# Altium integrated library Varistor (VDR).IntLib: 1 symbol
Pins are listed as number, name and electrical type; pins without a type are passive.

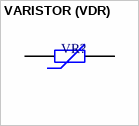
[diagram p0: symbol VARISTOR (VDR)]

## VARISTOR (VDR)
designator VR?
VARISTORS; DatasheetVersion: 2022
footprint 05D XXX (MOV-05DxxxK Metal Oxide Varistors (MOVs) are 5 mm)
footprint 07D XXX (MOV-07DxxxK Metal Oxide Varistors (MOVs) are 7 mm)
footprint 10D XXX (MOV-10DxxxK Metal Oxide Varistors (MOVs) are 10 mm)
footprint 14D XXX (MOV-14DxxxK Metal Oxide Varistors (MOVs) are 14 mm)
footprint 20D XXX (MOV-20DxxxK Metal Oxide Varistors (MOVs) are 20 mm)
footprint 23D XXX (MOV-23DxxxK Metal Oxide Varistors (MOVs) are 23 mm)
footprint Varistor Long (JVR10N331k With Long Hieght Legs and Right Angle)
footprint Varistor Medium (JVR10N331k With Medium Hieght Legs and Right Angle)
footprint Varistor Short  Vertical
footprint Varistor Ultra Long (JVR10N331k With Medium Hieght Legs and Right Angle)
pins: 1, 2